# Altium integrated library Linear Technology Power Management LDO Linear Regulators.IntLib: 2339 symbols (part 25 of 131)
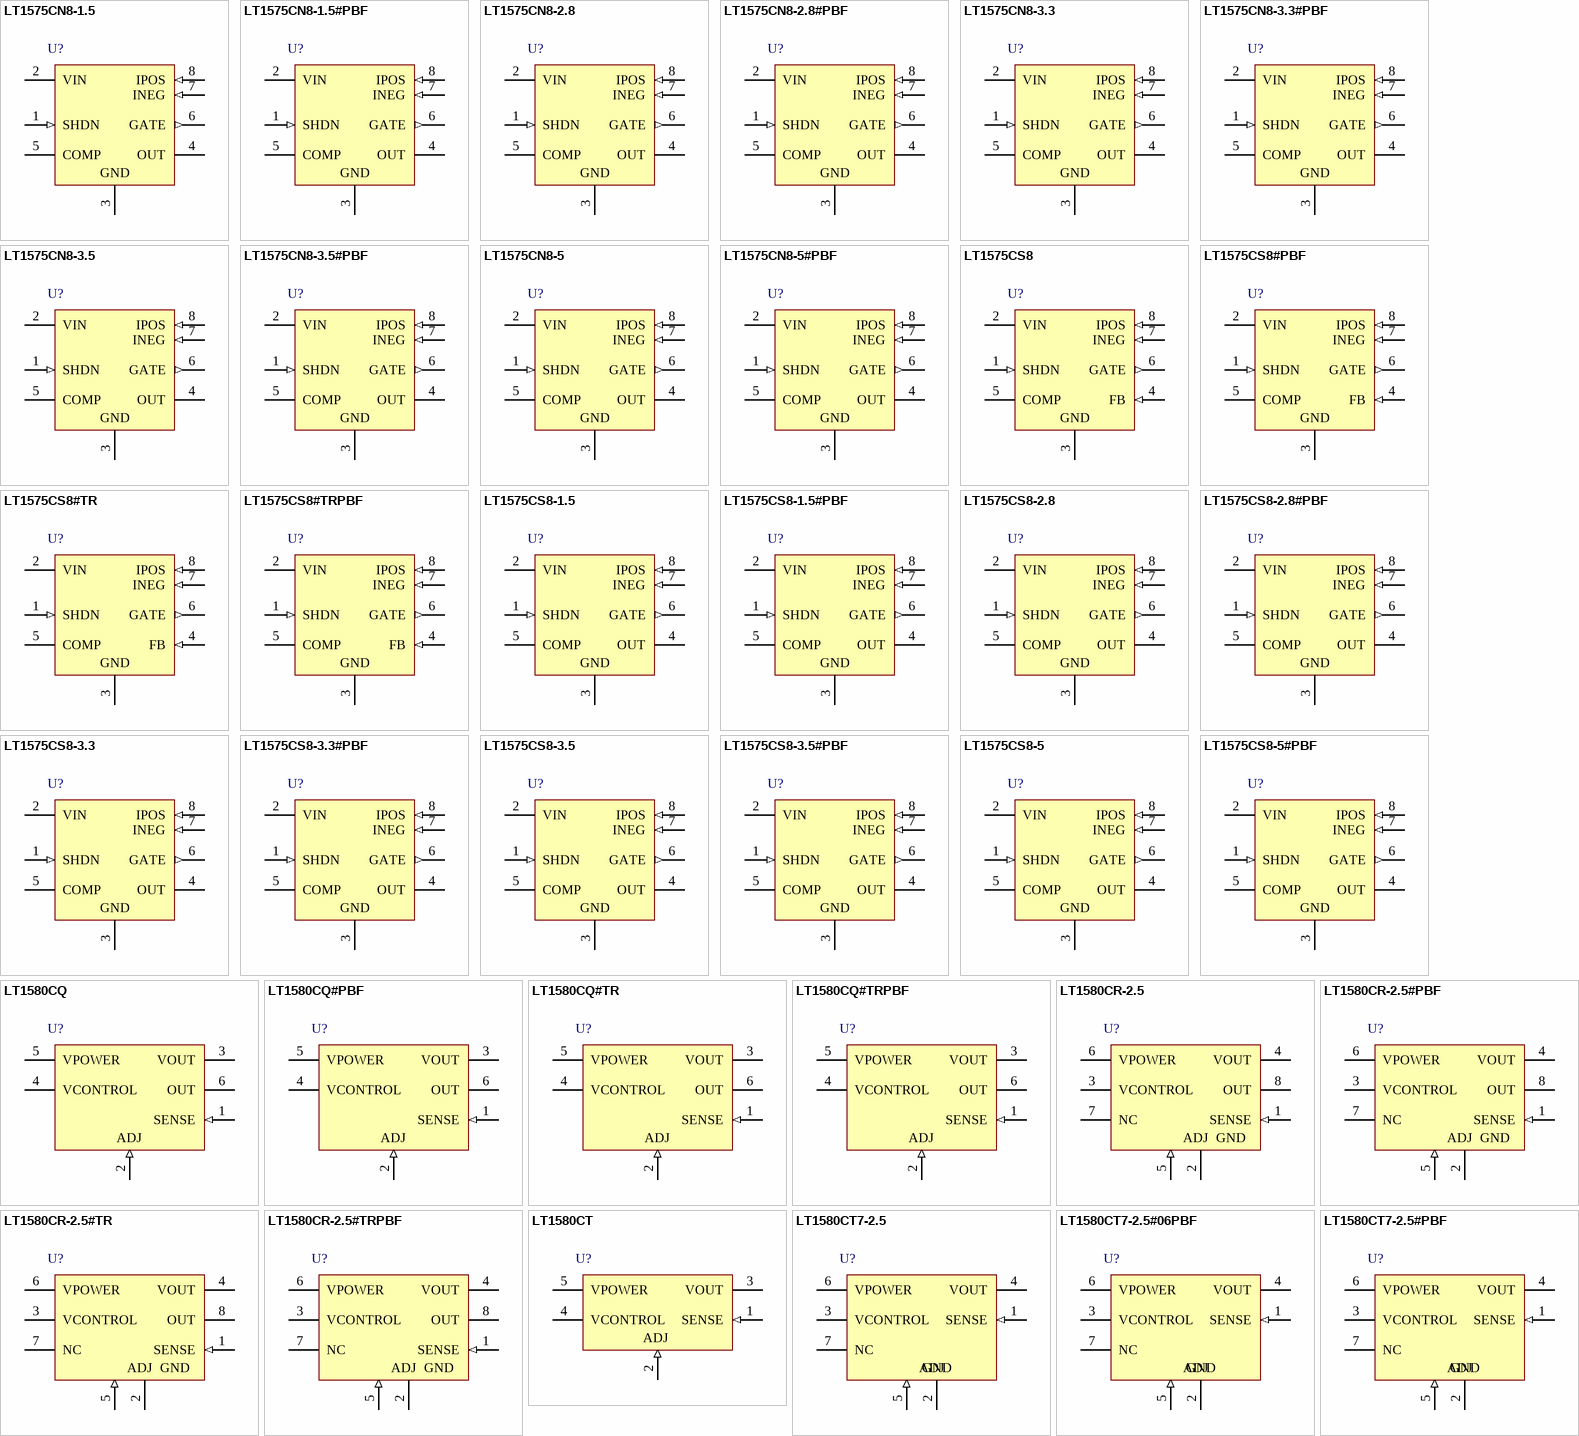
[diagram p93: symbols LT1575CN8-1.5 to LT1580CT7-2.5#PBF]

## LT1575CN8-2.8#PBF
designator U?
Ultrafast Transient Response, Low Dropout Regulator, 10 to 20 V Vin, 2.8 Vout, 8-pin DIP (N8-8), 0 to 70 degC, Pb-Free; Manufacturer: Linear Technology; PartNumber: LT1575CN8-2.8#PBF; Discrete Pass Element: yes; Iout(mA): 1; Isupply(mA): 12; Output Voltage: 2.8; Vin Max(V): 20; Vin Min(V): 10; PackageVersion: Rev. I, 07/2011; PackageReference: N8-8; PackageDescription: 8-Pin PDIP, Body 10.16 x 6.48 mm, Pitch 2.54 mm; Supplier 1: Digi-Key; Supplier Part Number 1: LT1575CN8-2.8#PBF-ND; Number of Outputs: 1; RoHS: TRUE; Mounting Technology: Through Hole; ComponentLink1Description: Manufacturer URL; ComponentLink1URL: http://www.linear.com/; ComponentLink2Description: Datasheet; ComponentLink2URL: http://cds.linear.com/docs/en/datasheet/15757f.pdf; ComponentLink3Description: Package Specification; ComponentLink3URL: http://www.linear.com/docs/en/packaging/05081510_I_N8.pdf
footprint LT-N8-8 (DIP, 8-Leads, Body 10.16x6.48mm, Pitch 2.54mm)
pins: 1 SHDN (in) "This is a multifunction shutdown pin that provides GATE drive latchoff capability. A 15uA current source, that turns on when current limit is activated, charges a capacitor placed in series with SHDN to GND and performs a (See Datasheet)", 2 VIN (power) "This is the input supply for the IC that powers the majority of internal circuitry and provides sufficient gate drive compliance for the external N-channel MOSFET. The typical supply voltage is 12V with 12.5mA of quiescent (See Datasheet)", 3 GND (power) "Analog Ground. This pin is also the negative sense terminal for the internal 1.21V reference. Connect external feedback divider networks that terminate to GND and frequency compensation components that terminate to GND (See Datasheet)", 4 OUT (power) "This is the inverting input of the error amplifier for the fixed voltage LT1575. The fixed voltage parts contain a precision resistor divider network to set output voltage. The typical resistor divider current is 1mA into (See Datasheet)", 5 COMP "This is the high impedance gain node of the error amplifier and is used for external frequency compensation. The transconductance of the error amplifier is 15 millimhos and open-loop voltage gain is typically 84dB. Frequency (See Datasheet)", 6 GATE (out) "This is the output of the error amplifier that drives N-channel MOSFETs with up to 5000pF of “effective?gate capacitance. The typical open-loop output impedance is 2ohm. When using low input capacitance MOSF(See Datasheet)", 7 INEG (in) "This is the negative sense terminal of the current limit amplifier. A small sense resistor is connected in series with the drain of the external MOSFET and is connected between the IPOS and INEG pins. A 50mV threshold (See Datasheet)", 8 IPOS (in) "This is the positive sense terminal of the current limit amplifier. Tie this pin directly to the main input voltage from which the output voltage is regulated. The typical input voltage is a 5V logic supply. This pin is also (See Datasheet)"

## LT1575CN8-3.3
designator U?
Ultrafast Transient Response, Low Dropout Regulator, 10 to 20 V Vin, 3.3 Vout, 8-pin DIP (N8-8), 0 to 70 degC; Manufacturer: Linear Technology; PartNumber: LT1575CN8-3.3; Discrete Pass Element: yes; Iout(mA): 1; Isupply(mA): 12; Output Voltage: 3.3; Vin Max(V): 20; Vin Min(V): 10; PackageVersion: Rev. I, 07/2011; PackageReference: N8-8; PackageDescription: 8-Pin PDIP, Body 10.16 x 6.48 mm, Pitch 2.54 mm; Supplier 1: Digi-Key; Supplier Part Number 1: LT1575CN8-3.3-ND; Number of Outputs: 1; RoHS: FALSE; Mounting Technology: Through Hole; ComponentLink1Description: Manufacturer URL; ComponentLink1URL: http://www.linear.com/; ComponentLink2Description: Datasheet; ComponentLink2URL: http://cds.linear.com/docs/en/datasheet/15757f.pdf; ComponentLink3Description: Package Specification; ComponentLink3URL: http://www.linear.com/docs/en/packaging/05081510_I_N8.pdf
footprint LT-N8-8 (DIP, 8-Leads, Body 10.16x6.48mm, Pitch 2.54mm)
pins: 1 SHDN (in) "This is a multifunction shutdown pin that provides GATE drive latchoff capability. A 15uA current source, that turns on when current limit is activated, charges a capacitor placed in series with SHDN to GND and performs a (See Datasheet)", 2 VIN (power) "This is the input supply for the IC that powers the majority of internal circuitry and provides sufficient gate drive compliance for the external N-channel MOSFET. The typical supply voltage is 12V with 12.5mA of quiescent (See Datasheet)", 3 GND (power) "Analog Ground. This pin is also the negative sense terminal for the internal 1.21V reference. Connect external feedback divider networks that terminate to GND and frequency compensation components that terminate to GND (See Datasheet)", 4 OUT (power) "This is the inverting input of the error amplifier for the fixed voltage LT1575. The fixed voltage parts contain a precision resistor divider network to set output voltage. The typical resistor divider current is 1mA into (See Datasheet)", 5 COMP "This is the high impedance gain node of the error amplifier and is used for external frequency compensation. The transconductance of the error amplifier is 15 millimhos and open-loop voltage gain is typically 84dB. Frequency (See Datasheet)", 6 GATE (out) "This is the output of the error amplifier that drives N-channel MOSFETs with up to 5000pF of “effective?gate capacitance. The typical open-loop output impedance is 2ohm. When using low input capacitance MOSF(See Datasheet)", 7 INEG (in) "This is the negative sense terminal of the current limit amplifier. A small sense resistor is connected in series with the drain of the external MOSFET and is connected between the IPOS and INEG pins. A 50mV threshold (See Datasheet)", 8 IPOS (in) "This is the positive sense terminal of the current limit amplifier. Tie this pin directly to the main input voltage from which the output voltage is regulated. The typical input voltage is a 5V logic supply. This pin is also (See Datasheet)"

## LT1575CN8-3.3#PBF
designator U?
Ultrafast Transient Response, Low Dropout Regulator, 10 to 20 V Vin, 3.3 Vout, 8-pin DIP (N8-8), 0 to 70 degC, Pb-Free; Manufacturer: Linear Technology; PartNumber: LT1575CN8-3.3#PBF; Discrete Pass Element: yes; Iout(mA): 1; Isupply(mA): 12; Output Voltage: 3.3; Vin Max(V): 20; Vin Min(V): 10; PackageVersion: Rev. I, 07/2011; PackageReference: N8-8; PackageDescription: 8-Pin PDIP, Body 10.16 x 6.48 mm, Pitch 2.54 mm; Supplier 1: Digi-Key; Supplier Part Number 1: LT1575CN8-3.3#PBF-ND; Number of Outputs: 1; RoHS: TRUE; Mounting Technology: Through Hole; ComponentLink1Description: Manufacturer URL; ComponentLink1URL: http://www.linear.com/; ComponentLink2Description: Datasheet; ComponentLink2URL: http://cds.linear.com/docs/en/datasheet/15757f.pdf; ComponentLink3Description: Package Specification; ComponentLink3URL: http://www.linear.com/docs/en/packaging/05081510_I_N8.pdf
footprint LT-N8-8 (DIP, 8-Leads, Body 10.16x6.48mm, Pitch 2.54mm)
pins: 1 SHDN (in) "This is a multifunction shutdown pin that provides GATE drive latchoff capability. A 15uA current source, that turns on when current limit is activated, charges a capacitor placed in series with SHDN to GND and performs a (See Datasheet)", 2 VIN (power) "This is the input supply for the IC that powers the majority of internal circuitry and provides sufficient gate drive compliance for the external N-channel MOSFET. The typical supply voltage is 12V with 12.5mA of quiescent (See Datasheet)", 3 GND (power) "Analog Ground. This pin is also the negative sense terminal for the internal 1.21V reference. Connect external feedback divider networks that terminate to GND and frequency compensation components that terminate to GND (See Datasheet)", 4 OUT (power) "This is the inverting input of the error amplifier for the fixed voltage LT1575. The fixed voltage parts contain a precision resistor divider network to set output voltage. The typical resistor divider current is 1mA into (See Datasheet)", 5 COMP "This is the high impedance gain node of the error amplifier and is used for external frequency compensation. The transconductance of the error amplifier is 15 millimhos and open-loop voltage gain is typically 84dB. Frequency (See Datasheet)", 6 GATE (out) "This is the output of the error amplifier that drives N-channel MOSFETs with up to 5000pF of “effective?gate capacitance. The typical open-loop output impedance is 2ohm. When using low input capacitance MOSF(See Datasheet)", 7 INEG (in) "This is the negative sense terminal of the current limit amplifier. A small sense resistor is connected in series with the drain of the external MOSFET and is connected between the IPOS and INEG pins. A 50mV threshold (See Datasheet)", 8 IPOS (in) "This is the positive sense terminal of the current limit amplifier. Tie this pin directly to the main input voltage from which the output voltage is regulated. The typical input voltage is a 5V logic supply. This pin is also (See Datasheet)"

## LT1575CN8-3.5
designator U?
Ultrafast Transient Response, Low Dropout Regulator, 10 to 20 V Vin, 3.5 Vout, 8-pin DIP (N8-8), 0 to 70 degC; Manufacturer: Linear Technology; PartNumber: LT1575CN8-3.5; Discrete Pass Element: yes; Iout(mA): 1; Isupply(mA): 12; Output Voltage: 3.5; Vin Max(V): 20; Vin Min(V): 10; PackageVersion: Rev. I, 07/2011; PackageReference: N8-8; PackageDescription: 8-Pin PDIP, Body 10.16 x 6.48 mm, Pitch 2.54 mm; Supplier 1: Digi-Key; Supplier Part Number 1: LT1575CN8-3.5-ND; Number of Outputs: 1; RoHS: FALSE; Mounting Technology: Through Hole; ComponentLink1Description: Manufacturer URL; ComponentLink1URL: http://www.linear.com/; ComponentLink2Description: Datasheet; ComponentLink2URL: http://cds.linear.com/docs/en/datasheet/15757f.pdf; ComponentLink3Description: Package Specification; ComponentLink3URL: http://www.linear.com/docs/en/packaging/05081510_I_N8.pdf
footprint LT-N8-8 (DIP, 8-Leads, Body 10.16x6.48mm, Pitch 2.54mm)
pins: 1 SHDN (in) "This is a multifunction shutdown pin that provides GATE drive latchoff capability. A 15uA current source, that turns on when current limit is activated, charges a capacitor placed in series with SHDN to GND and performs a (See Datasheet)", 2 VIN (power) "This is the input supply for the IC that powers the majority of internal circuitry and provides sufficient gate drive compliance for the external N-channel MOSFET. The typical supply voltage is 12V with 12.5mA of quiescent (See Datasheet)", 3 GND (power) "Analog Ground. This pin is also the negative sense terminal for the internal 1.21V reference. Connect external feedback divider networks that terminate to GND and frequency compensation components that terminate to GND (See Datasheet)", 4 OUT (power) "This is the inverting input of the error amplifier for the fixed voltage LT1575. The fixed voltage parts contain a precision resistor divider network to set output voltage. The typical resistor divider current is 1mA into (See Datasheet)", 5 COMP "This is the high impedance gain node of the error amplifier and is used for external frequency compensation. The transconductance of the error amplifier is 15 millimhos and open-loop voltage gain is typically 84dB. Frequency (See Datasheet)", 6 GATE (out) "This is the output of the error amplifier that drives N-channel MOSFETs with up to 5000pF of “effective?gate capacitance. The typical open-loop output impedance is 2ohm. When using low input capacitance MOSF(See Datasheet)", 7 INEG (in) "This is the negative sense terminal of the current limit amplifier. A small sense resistor is connected in series with the drain of the external MOSFET and is connected between the IPOS and INEG pins. A 50mV threshold (See Datasheet)", 8 IPOS (in) "This is the positive sense terminal of the current limit amplifier. Tie this pin directly to the main input voltage from which the output voltage is regulated. The typical input voltage is a 5V logic supply. This pin is also (See Datasheet)"

## LT1575CN8-3.5#PBF
designator U?
Ultrafast Transient Response, Low Dropout Regulator, 10 to 20 V Vin, 3.5 Vout, 8-pin DIP (N8-8), 0 to 70 degC, Pb-Free; Manufacturer: Linear Technology; PartNumber: LT1575CN8-3.5#PBF; Discrete Pass Element: yes; Iout(mA): 1; Isupply(mA): 12; Output Voltage: 3.5; Vin Max(V): 20; Vin Min(V): 10; PackageVersion: Rev. I, 07/2011; PackageReference: N8-8; PackageDescription: 8-Pin PDIP, Body 10.16 x 6.48 mm, Pitch 2.54 mm; Supplier 1: Digi-Key; Supplier Part Number 1: LT1575CN8-3.5#PBF-ND; Number of Outputs: 1; RoHS: TRUE; Mounting Technology: Through Hole; ComponentLink1Description: Manufacturer URL; ComponentLink1URL: http://www.linear.com/; ComponentLink2Description: Datasheet; ComponentLink2URL: http://cds.linear.com/docs/en/datasheet/15757f.pdf; ComponentLink3Description: Package Specification; ComponentLink3URL: http://www.linear.com/docs/en/packaging/05081510_I_N8.pdf
footprint LT-N8-8 (DIP, 8-Leads, Body 10.16x6.48mm, Pitch 2.54mm)
pins: 1 SHDN (in) "This is a multifunction shutdown pin that provides GATE drive latchoff capability. A 15uA current source, that turns on when current limit is activated, charges a capacitor placed in series with SHDN to GND and performs a (See Datasheet)", 2 VIN (power) "This is the input supply for the IC that powers the majority of internal circuitry and provides sufficient gate drive compliance for the external N-channel MOSFET. The typical supply voltage is 12V with 12.5mA of quiescent (See Datasheet)", 3 GND (power) "Analog Ground. This pin is also the negative sense terminal for the internal 1.21V reference. Connect external feedback divider networks that terminate to GND and frequency compensation components that terminate to GND (See Datasheet)", 4 OUT (power) "This is the inverting input of the error amplifier for the fixed voltage LT1575. The fixed voltage parts contain a precision resistor divider network to set output voltage. The typical resistor divider current is 1mA into (See Datasheet)", 5 COMP "This is the high impedance gain node of the error amplifier and is used for external frequency compensation. The transconductance of the error amplifier is 15 millimhos and open-loop voltage gain is typically 84dB. Frequency (See Datasheet)", 6 GATE (out) "This is the output of the error amplifier that drives N-channel MOSFETs with up to 5000pF of “effective?gate capacitance. The typical open-loop output impedance is 2ohm. When using low input capacitance MOSF(See Datasheet)", 7 INEG (in) "This is the negative sense terminal of the current limit amplifier. A small sense resistor is connected in series with the drain of the external MOSFET and is connected between the IPOS and INEG pins. A 50mV threshold (See Datasheet)", 8 IPOS (in) "This is the positive sense terminal of the current limit amplifier. Tie this pin directly to the main input voltage from which the output voltage is regulated. The typical input voltage is a 5V logic supply. This pin is also (See Datasheet)"

## LT1575CN8-5
designator U?
Ultrafast Transient Response, Low Dropout Regulator, 10 to 20 V Vin, 5 Vout, 8-pin DIP (N8-8), 0 to 70 degC; Manufacturer: Linear Technology; PartNumber: LT1575CN8-5; Discrete Pass Element: yes; Iout(mA): 1; Isupply(mA): 12; Output Voltage: 5; Vin Max(V): 20; Vin Min(V): 10; PackageVersion: Rev. I, 07/2011; PackageReference: N8-8; PackageDescription: 8-Pin PDIP, Body 10.16 x 6.48 mm, Pitch 2.54 mm; Number of Outputs: 1; RoHS: FALSE; Mounting Technology: Through Hole; ComponentLink1Description: Manufacturer URL; ComponentLink1URL: http://www.linear.com/; ComponentLink2Description: Datasheet; ComponentLink2URL: http://cds.linear.com/docs/en/datasheet/15757f.pdf; ComponentLink3Description: Package Specification; ComponentLink3URL: http://www.linear.com/docs/en/packaging/05081510_I_N8.pdf
footprint LT-N8-8 (DIP, 8-Leads, Body 10.16x6.48mm, Pitch 2.54mm)
pins: 1 SHDN (in) "This is a multifunction shutdown pin that provides GATE drive latchoff capability. A 15uA current source, that turns on when current limit is activated, charges a capacitor placed in series with SHDN to GND and performs a (See Datasheet)", 2 VIN (power) "This is the input supply for the IC that powers the majority of internal circuitry and provides sufficient gate drive compliance for the external N-channel MOSFET. The typical supply voltage is 12V with 12.5mA of quiescent (See Datasheet)", 3 GND (power) "Analog Ground. This pin is also the negative sense terminal for the internal 1.21V reference. Connect external feedback divider networks that terminate to GND and frequency compensation components that terminate to GND (See Datasheet)", 4 OUT (power) "This is the inverting input of the error amplifier for the fixed voltage LT1575. The fixed voltage parts contain a precision resistor divider network to set output voltage. The typical resistor divider current is 1mA into (See Datasheet)", 5 COMP "This is the high impedance gain node of the error amplifier and is used for external frequency compensation. The transconductance of the error amplifier is 15 millimhos and open-loop voltage gain is typically 84dB. Frequency (See Datasheet)", 6 GATE (out) "This is the output of the error amplifier that drives N-channel MOSFETs with up to 5000pF of “effective?gate capacitance. The typical open-loop output impedance is 2ohm. When using low input capacitance MOSF(See Datasheet)", 7 INEG (in) "This is the negative sense terminal of the current limit amplifier. A small sense resistor is connected in series with the drain of the external MOSFET and is connected between the IPOS and INEG pins. A 50mV threshold (See Datasheet)", 8 IPOS (in) "This is the positive sense terminal of the current limit amplifier. Tie this pin directly to the main input voltage from which the output voltage is regulated. The typical input voltage is a 5V logic supply. This pin is also (See Datasheet)"

## LT1575CN8-5#PBF
designator U?
Ultrafast Transient Response, Low Dropout Regulator, 10 to 20 V Vin, 5 Vout, 8-pin DIP (N8-8), 0 to 70 degC, Pb-Free; Manufacturer: Linear Technology; PartNumber: LT1575CN8-5#PBF; Discrete Pass Element: yes; Iout(mA): 1; Isupply(mA): 12; Output Voltage: 5; Vin Max(V): 20; Vin Min(V): 10; PackageVersion: Rev. I, 07/2011; PackageReference: N8-8; PackageDescription: 8-Pin PDIP, Body 10.16 x 6.48 mm, Pitch 2.54 mm; Supplier 1: Digi-Key; Supplier Part Number 1: LT1575CN8-5#PBF-ND; Number of Outputs: 1; RoHS: TRUE; Mounting Technology: Through Hole; ComponentLink1Description: Manufacturer URL; ComponentLink1URL: http://www.linear.com/; ComponentLink2Description: Datasheet; ComponentLink2URL: http://cds.linear.com/docs/en/datasheet/15757f.pdf; ComponentLink3Description: Package Specification; ComponentLink3URL: http://www.linear.com/docs/en/packaging/05081510_I_N8.pdf
footprint LT-N8-8 (DIP, 8-Leads, Body 10.16x6.48mm, Pitch 2.54mm)
pins: 1 SHDN (in) "This is a multifunction shutdown pin that provides GATE drive latchoff capability. A 15uA current source, that turns on when current limit is activated, charges a capacitor placed in series with SHDN to GND and performs a (See Datasheet)", 2 VIN (power) "This is the input supply for the IC that powers the majority of internal circuitry and provides sufficient gate drive compliance for the external N-channel MOSFET. The typical supply voltage is 12V with 12.5mA of quiescent (See Datasheet)", 3 GND (power) "Analog Ground. This pin is also the negative sense terminal for the internal 1.21V reference. Connect external feedback divider networks that terminate to GND and frequency compensation components that terminate to GND (See Datasheet)", 4 OUT (power) "This is the inverting input of the error amplifier for the fixed voltage LT1575. The fixed voltage parts contain a precision resistor divider network to set output voltage. The typical resistor divider current is 1mA into (See Datasheet)", 5 COMP "This is the high impedance gain node of the error amplifier and is used for external frequency compensation. The transconductance of the error amplifier is 15 millimhos and open-loop voltage gain is typically 84dB. Frequency (See Datasheet)", 6 GATE (out) "This is the output of the error amplifier that drives N-channel MOSFETs with up to 5000pF of “effective?gate capacitance. The typical open-loop output impedance is 2ohm. When using low input capacitance MOSF(See Datasheet)", 7 INEG (in) "This is the negative sense terminal of the current limit amplifier. A small sense resistor is connected in series with the drain of the external MOSFET and is connected between the IPOS and INEG pins. A 50mV threshold (See Datasheet)", 8 IPOS (in) "This is the positive sense terminal of the current limit amplifier. Tie this pin directly to the main input voltage from which the output voltage is regulated. The typical input voltage is a 5V logic supply. This pin is also (See Datasheet)"

## LT1575CS8
designator U?
Ultrafast Transient Response, Low Dropout Regulator, 10 to 20 V Vin, Adjustable Vout, 8-pin SOIC (S8-8), 0 to 70 degC; Manufacturer: Linear Technology; PartNumber: LT1575CS8; Discrete Pass Element: yes; Iout(mA): 1; Isupply(mA): 12; Output Voltage: Adj; Vin Max(V): 20; Vin Min(V): 10; Vout Min(V): 1.27; PackageVersion: Rev. G, 03/2012; PackageReference: S8-8; PackageDescription: 8-Pin Plastic Small Outline (Narrow .150 Inch), Body 4.9 x 3.9 mm, Pitch 1.27 mm; Supplier 1: Digi-Key; Supplier Part Number 1: LT1575CS8-ND; Supplier 2: Newark; Supplier Part Number 2: 57M4921; Number of Outputs: 1; RoHS: FALSE; Mounting Technology: Surface Mount; ComponentLink1Description: Manufacturer URL; ComponentLink1URL: http://www.linear.com/; ComponentLink2Description: Datasheet; ComponentLink2URL: http://cds.linear.com/docs/en/datasheet/15757f.pdf; ComponentLink3Description: Package Specification; ComponentLink3URL: http://cds.linear.com/docs/en/packaging/05081610_G_SO8.pdf
footprint LT-S8-8_N (SOIC, 8-Leads, Body 4.9x3.9mm, Pitch 1.27mm, IPC Medium Density)
footprint LT-S8-8_L (SOIC, 8-Leads, Body 4.9x3.9mm, Pitch 1.27mm, IPC High Density)
footprint LT-S8-8_M (SOIC, 8-Leads, Body 4.9x3.9mm, Pitch 1.27mm, IPC Low Density)
pins: 1 SHDN (in) "This is a multifunction shutdown pin that provides GATE drive latchoff capability. A 15uA current source, that turns on when current limit is activated, charges a capacitor placed in series with SHDN to GND and performs a (See Datasheet)", 2 VIN (power) "This is the input supply for the IC that powers the majority of internal circuitry and provides sufficient gate drive compliance for the external N-channel MOSFET. The typical supply voltage is 12V with 12.5mA of quiescent (See Datasheet)", 3 GND (power) "Analog Ground. This pin is also the negative sense terminal for the internal 1.21V reference. Connect external feedback divider networks that terminate to GND and frequency compensation components that terminate to GND (See Datasheet)", 4 FB (in) "This is the inverting input of the error amplifier for the adjustable voltage LT1575. The noninverting input is tied to the internal 1.21V reference. Input bias current for this pin is typically 0.6uA flowing out of the pin. (See Datasheet)", 5 COMP "This is the high impedance gain node of the error amplifier and is used for external frequency compensation. The transconductance of the error amplifier is 15 millimhos and open-loop voltage gain is typically 84dB. Frequency (See Datasheet)", 6 GATE (out) "This is the output of the error amplifier that drives N-channel MOSFETs with up to 5000pF of “effective?gate capacitance. The typical open-loop output impedance is 2ohm. When using low input capacitance MOSF(See Datasheet)", 7 INEG (in) "This is the negative sense terminal of the current limit amplifier. A small sense resistor is connected in series with the drain of the external MOSFET and is connected between the IPOS and INEG pins. A 50mV threshold (See Datasheet)", 8 IPOS (in) "This is the positive sense terminal of the current limit amplifier. Tie this pin directly to the main input voltage from which the output voltage is regulated. The typical input voltage is a 5V logic supply. This pin is also (See Datasheet)"

## LT1575CS8#PBF
designator U?
Ultrafast Transient Response, Low Dropout Regulator, 10 to 20 V Vin, Adjustable Vout, 8-pin SOIC (S8-8), 0 to 70 degC, Pb-Free; Manufacturer: Linear Technology; PartNumber: LT1575CS8#PBF; Discrete Pass Element: yes; Iout(mA): 1; Isupply(mA): 12; Output Voltage: Adj; Vin Max(V): 20; Vin Min(V): 10; Vout Min(V): 1.27; PackageVersion: Rev. G, 03/2012; PackageReference: S8-8; PackageDescription: 8-Pin Plastic Small Outline (Narrow .150 Inch), Body 4.9 x 3.9 mm, Pitch 1.27 mm; Supplier 1: Digi-Key; Supplier Part Number 1: LT1575CS8#PBF-ND; Supplier 2: Farnell; Supplier Part Number 2: 1273592; Supplier 3: Newark; Supplier Part Number 3: 57M4932; Number of Outputs: 1; RoHS: TRUE; Mounting Technology: Surface Mount; ComponentLink1Description: Manufacturer URL; ComponentLink1URL: http://www.linear.com/; ComponentLink2Description: Datasheet; ComponentLink2URL: http://cds.linear.com/docs/en/datasheet/15757f.pdf; ComponentLink3Description: Package Specification; ComponentLink3URL: http://cds.linear.com/docs/en/packaging/05081610_G_SO8.pdf
footprint LT-S8-8_N (SOIC, 8-Leads, Body 4.9x3.9mm, Pitch 1.27mm, IPC Medium Density)
footprint LT-S8-8_L (SOIC, 8-Leads, Body 4.9x3.9mm, Pitch 1.27mm, IPC High Density)
footprint LT-S8-8_M (SOIC, 8-Leads, Body 4.9x3.9mm, Pitch 1.27mm, IPC Low Density)
pins: 1 SHDN (in) "This is a multifunction shutdown pin that provides GATE drive latchoff capability. A 15uA current source, that turns on when current limit is activated, charges a capacitor placed in series with SHDN to GND and performs a (See Datasheet)", 2 VIN (power) "This is the input supply for the IC that powers the majority of internal circuitry and provides sufficient gate drive compliance for the external N-channel MOSFET. The typical supply voltage is 12V with 12.5mA of quiescent (See Datasheet)", 3 GND (power) "Analog Ground. This pin is also the negative sense terminal for the internal 1.21V reference. Connect external feedback divider networks that terminate to GND and frequency compensation components that terminate to GND (See Datasheet)", 4 FB (in) "This is the inverting input of the error amplifier for the adjustable voltage LT1575. The noninverting input is tied to the internal 1.21V reference. Input bias current for this pin is typically 0.6uA flowing out of the pin. (See Datasheet)", 5 COMP "This is the high impedance gain node of the error amplifier and is used for external frequency compensation. The transconductance of the error amplifier is 15 millimhos and open-loop voltage gain is typically 84dB. Frequency (See Datasheet)", 6 GATE (out) "This is the output of the error amplifier that drives N-channel MOSFETs with up to 5000pF of “effective?gate capacitance. The typical open-loop output impedance is 2ohm. When using low input capacitance MOSF(See Datasheet)", 7 INEG (in) "This is the negative sense terminal of the current limit amplifier. A small sense resistor is connected in series with the drain of the external MOSFET and is connected between the IPOS and INEG pins. A 50mV threshold (See Datasheet)", 8 IPOS (in) "This is the positive sense terminal of the current limit amplifier. Tie this pin directly to the main input voltage from which the output voltage is regulated. The typical input voltage is a 5V logic supply. This pin is also (See Datasheet)"

## LT1575CS8#TR
designator U?
Ultrafast Transient Response, Low Dropout Regulator, 10 to 20 V Vin, Adjustable Vout, 8-pin SOIC (S8-8), 0 to 70 degC, Tape and Reel; Manufacturer: Linear Technology; PartNumber: LT1575CS8#TR; Discrete Pass Element: yes; Iout(mA): 1; Isupply(mA): 12; Output Voltage: Adj; Vin Max(V): 20; Vin Min(V): 10; Vout Min(V): 1.27; PackageVersion: Rev. G, 03/2012; PackageReference: S8-8; PackageDescription: 8-Pin Plastic Small Outline (Narrow .150 Inch), Body 4.9 x 3.9 mm, Pitch 1.27 mm; Supplier 1: Digi-Key; Supplier Part Number 1: LT1575CS8#TR-ND; Number of Outputs: 1; Packing: Tape and Reel; RoHS: FALSE; Mounting Technology: Surface Mount; ComponentLink1Description: Manufacturer URL; ComponentLink1URL: http://www.linear.com/; ComponentLink2Description: Datasheet; ComponentLink2URL: http://cds.linear.com/docs/en/datasheet/15757f.pdf; ComponentLink3Description: Package Specification; ComponentLink3URL: http://cds.linear.com/docs/en/packaging/05081610_G_SO8.pdf
footprint LT-S8-8_N (SOIC, 8-Leads, Body 4.9x3.9mm, Pitch 1.27mm, IPC Medium Density)
footprint LT-S8-8_L (SOIC, 8-Leads, Body 4.9x3.9mm, Pitch 1.27mm, IPC High Density)
footprint LT-S8-8_M (SOIC, 8-Leads, Body 4.9x3.9mm, Pitch 1.27mm, IPC Low Density)
pins: 1 SHDN (in) "This is a multifunction shutdown pin that provides GATE drive latchoff capability. A 15uA current source, that turns on when current limit is activated, charges a capacitor placed in series with SHDN to GND and performs a (See Datasheet)", 2 VIN (power) "This is the input supply for the IC that powers the majority of internal circuitry and provides sufficient gate drive compliance for the external N-channel MOSFET. The typical supply voltage is 12V with 12.5mA of quiescent (See Datasheet)", 3 GND (power) "Analog Ground. This pin is also the negative sense terminal for the internal 1.21V reference. Connect external feedback divider networks that terminate to GND and frequency compensation components that terminate to GND (See Datasheet)", 4 FB (in) "This is the inverting input of the error amplifier for the adjustable voltage LT1575. The noninverting input is tied to the internal 1.21V reference. Input bias current for this pin is typically 0.6uA flowing out of the pin. (See Datasheet)", 5 COMP "This is the high impedance gain node of the error amplifier and is used for external frequency compensation. The transconductance of the error amplifier is 15 millimhos and open-loop voltage gain is typically 84dB. Frequency (See Datasheet)", 6 GATE (out) "This is the output of the error amplifier that drives N-channel MOSFETs with up to 5000pF of “effective?gate capacitance. The typical open-loop output impedance is 2ohm. When using low input capacitance MOSF(See Datasheet)", 7 INEG (in) "This is the negative sense terminal of the current limit amplifier. A small sense resistor is connected in series with the drain of the external MOSFET and is connected between the IPOS and INEG pins. A 50mV threshold (See Datasheet)", 8 IPOS (in) "This is the positive sense terminal of the current limit amplifier. Tie this pin directly to the main input voltage from which the output voltage is regulated. The typical input voltage is a 5V logic supply. This pin is also (See Datasheet)"

## LT1575CS8#TRPBF
designator U?
Ultrafast Transient Response, Low Dropout Regulator, 10 to 20 V Vin, Adjustable Vout, 8-pin SOIC (S8-8), 0 to 70 degC, Pb-Free, Tape and Reel; Manufacturer: Linear Technology; PartNumber: LT1575CS8#TRPBF; Discrete Pass Element: yes; Iout(mA): 1; Isupply(mA): 12; Output Voltage: Adj; Vin Max(V): 20; Vin Min(V): 10; Vout Min(V): 1.27; PackageVersion: Rev. G, 03/2012; PackageReference: S8-8; PackageDescription: 8-Pin Plastic Small Outline (Narrow .150 Inch), Body 4.9 x 3.9 mm, Pitch 1.27 mm; Supplier 1: Digi-Key; Supplier Part Number 1: LT1575CS8#TRPBF-ND; Supplier 2: Newark; Supplier Part Number 2: 57M4934; Number of Outputs: 1; Packing: Tape and Reel; RoHS: TRUE; Mounting Technology: Surface Mount; ComponentLink1Description: Manufacturer URL; ComponentLink1URL: http://www.linear.com/; ComponentLink2Description: Datasheet; ComponentLink2URL: http://cds.linear.com/docs/en/datasheet/15757f.pdf; ComponentLink3Description: Package Specification; ComponentLink3URL: http://cds.linear.com/docs/en/packaging/05081610_G_SO8.pdf
footprint LT-S8-8_N (SOIC, 8-Leads, Body 4.9x3.9mm, Pitch 1.27mm, IPC Medium Density)
footprint LT-S8-8_L (SOIC, 8-Leads, Body 4.9x3.9mm, Pitch 1.27mm, IPC High Density)
footprint LT-S8-8_M (SOIC, 8-Leads, Body 4.9x3.9mm, Pitch 1.27mm, IPC Low Density)
pins: 1 SHDN (in) "This is a multifunction shutdown pin that provides GATE drive latchoff capability. A 15uA current source, that turns on when current limit is activated, charges a capacitor placed in series with SHDN to GND and performs a (See Datasheet)", 2 VIN (power) "This is the input supply for the IC that powers the majority of internal circuitry and provides sufficient gate drive compliance for the external N-channel MOSFET. The typical supply voltage is 12V with 12.5mA of quiescent (See Datasheet)", 3 GND (power) "Analog Ground. This pin is also the negative sense terminal for the internal 1.21V reference. Connect external feedback divider networks that terminate to GND and frequency compensation components that terminate to GND (See Datasheet)", 4 FB (in) "This is the inverting input of the error amplifier for the adjustable voltage LT1575. The noninverting input is tied to the internal 1.21V reference. Input bias current for this pin is typically 0.6uA flowing out of the pin. (See Datasheet)", 5 COMP "This is the high impedance gain node of the error amplifier and is used for external frequency compensation. The transconductance of the error amplifier is 15 millimhos and open-loop voltage gain is typically 84dB. Frequency (See Datasheet)", 6 GATE (out) "This is the output of the error amplifier that drives N-channel MOSFETs with up to 5000pF of “effective?gate capacitance. The typical open-loop output impedance is 2ohm. When using low input capacitance MOSF(See Datasheet)", 7 INEG (in) "This is the negative sense terminal of the current limit amplifier. A small sense resistor is connected in series with the drain of the external MOSFET and is connected between the IPOS and INEG pins. A 50mV threshold (See Datasheet)", 8 IPOS (in) "This is the positive sense terminal of the current limit amplifier. Tie this pin directly to the main input voltage from which the output voltage is regulated. The typical input voltage is a 5V logic supply. This pin is also (See Datasheet)"

## LT1575CS8-1.5
designator U?
Ultrafast Transient Response, Low Dropout Regulator, 10 to 20 V Vin, 1.5 Vout, 8-pin SOIC (S8-8), 0 to 70 degC; Manufacturer: Linear Technology; PartNumber: LT1575CS8-1.5; Discrete Pass Element: yes; Iout(mA): 1; Isupply(mA): 12; Output Voltage: 1.5; Vin Max(V): 20; Vin Min(V): 10; PackageVersion: Rev. G, 03/2012; PackageReference: S8-8; PackageDescription: 8-Pin Plastic Small Outline (Narrow .150 Inch), Body 4.9 x 3.9 mm, Pitch 1.27 mm; Supplier 1: Digi-Key; Supplier Part Number 1: LT1575CS8-1.5-ND; Number of Outputs: 1; RoHS: FALSE; Mounting Technology: Surface Mount; ComponentLink1Description: Manufacturer URL; ComponentLink1URL: http://www.linear.com/; ComponentLink2Description: Datasheet; ComponentLink2URL: http://cds.linear.com/docs/en/datasheet/15757f.pdf; ComponentLink3Description: Package Specification; ComponentLink3URL: http://cds.linear.com/docs/en/packaging/05081610_G_SO8.pdf
footprint LT-S8-8_N (SOIC, 8-Leads, Body 4.9x3.9mm, Pitch 1.27mm, IPC Medium Density)
footprint LT-S8-8_L (SOIC, 8-Leads, Body 4.9x3.9mm, Pitch 1.27mm, IPC High Density)
footprint LT-S8-8_M (SOIC, 8-Leads, Body 4.9x3.9mm, Pitch 1.27mm, IPC Low Density)
pins: 1 SHDN (in) "This is a multifunction shutdown pin that provides GATE drive latchoff capability. A 15uA current source, that turns on when current limit is activated, charges a capacitor placed in series with SHDN to GND and performs a (See Datasheet)", 2 VIN (power) "This is the input supply for the IC that powers the majority of internal circuitry and provides sufficient gate drive compliance for the external N-channel MOSFET. The typical supply voltage is 12V with 12.5mA of quiescent (See Datasheet)", 3 GND (power) "Analog Ground. This pin is also the negative sense terminal for the internal 1.21V reference. Connect external feedback divider networks that terminate to GND and frequency compensation components that terminate to GND (See Datasheet)", 4 OUT (power) "This is the inverting input of the error amplifier for the fixed voltage LT1575. The fixed voltage parts contain a precision resistor divider network to set output voltage. The typical resistor divider current is 1mA into (See Datasheet)", 5 COMP "This is the high impedance gain node of the error amplifier and is used for external frequency compensation. The transconductance of the error amplifier is 15 millimhos and open-loop voltage gain is typically 84dB. Frequency (See Datasheet)", 6 GATE (out) "This is the output of the error amplifier that drives N-channel MOSFETs with up to 5000pF of “effective?gate capacitance. The typical open-loop output impedance is 2ohm. When using low input capacitance MOSF(See Datasheet)", 7 INEG (in) "This is the negative sense terminal of the current limit amplifier. A small sense resistor is connected in series with the drain of the external MOSFET and is connected between the IPOS and INEG pins. A 50mV threshold (See Datasheet)", 8 IPOS (in) "This is the positive sense terminal of the current limit amplifier. Tie this pin directly to the main input voltage from which the output voltage is regulated. The typical input voltage is a 5V logic supply. This pin is also (See Datasheet)"

## LT1575CS8-1.5#PBF
designator U?
Ultrafast Transient Response, Low Dropout Regulator, 10 to 20 V Vin, 1.5 Vout, 8-pin SOIC (S8-8), 0 to 70 degC, Pb-Free; Manufacturer: Linear Technology; PartNumber: LT1575CS8-1.5#PBF; Discrete Pass Element: yes; Iout(mA): 1; Isupply(mA): 12; Output Voltage: 1.5; Vin Max(V): 20; Vin Min(V): 10; PackageVersion: Rev. G, 03/2012; PackageReference: S8-8; PackageDescription: 8-Pin Plastic Small Outline (Narrow .150 Inch), Body 4.9 x 3.9 mm, Pitch 1.27 mm; Supplier 1: Digi-Key; Supplier Part Number 1: LT1575CS8-1.5#PBF-ND; Number of Outputs: 1; RoHS: TRUE; Mounting Technology: Surface Mount; ComponentLink1Description: Manufacturer URL; ComponentLink1URL: http://www.linear.com/; ComponentLink2Description: Datasheet; ComponentLink2URL: http://cds.linear.com/docs/en/datasheet/15757f.pdf; ComponentLink3Description: Package Specification; ComponentLink3URL: http://cds.linear.com/docs/en/packaging/05081610_G_SO8.pdf
footprint LT-S8-8_N (SOIC, 8-Leads, Body 4.9x3.9mm, Pitch 1.27mm, IPC Medium Density)
footprint LT-S8-8_L (SOIC, 8-Leads, Body 4.9x3.9mm, Pitch 1.27mm, IPC High Density)
footprint LT-S8-8_M (SOIC, 8-Leads, Body 4.9x3.9mm, Pitch 1.27mm, IPC Low Density)
pins: 1 SHDN (in) "This is a multifunction shutdown pin that provides GATE drive latchoff capability. A 15uA current source, that turns on when current limit is activated, charges a capacitor placed in series with SHDN to GND and performs a (See Datasheet)", 2 VIN (power) "This is the input supply for the IC that powers the majority of internal circuitry and provides sufficient gate drive compliance for the external N-channel MOSFET. The typical supply voltage is 12V with 12.5mA of quiescent (See Datasheet)", 3 GND (power) "Analog Ground. This pin is also the negative sense terminal for the internal 1.21V reference. Connect external feedback divider networks that terminate to GND and frequency compensation components that terminate to GND (See Datasheet)", 4 OUT (power) "This is the inverting input of the error amplifier for the fixed voltage LT1575. The fixed voltage parts contain a precision resistor divider network to set output voltage. The typical resistor divider current is 1mA into (See Datasheet)", 5 COMP "This is the high impedance gain node of the error amplifier and is used for external frequency compensation. The transconductance of the error amplifier is 15 millimhos and open-loop voltage gain is typically 84dB. Frequency (See Datasheet)", 6 GATE (out) "This is the output of the error amplifier that drives N-channel MOSFETs with up to 5000pF of “effective?gate capacitance. The typical open-loop output impedance is 2ohm. When using low input capacitance MOSF(See Datasheet)", 7 INEG (in) "This is the negative sense terminal of the current limit amplifier. A small sense resistor is connected in series with the drain of the external MOSFET and is connected between the IPOS and INEG pins. A 50mV threshold (See Datasheet)", 8 IPOS (in) "This is the positive sense terminal of the current limit amplifier. Tie this pin directly to the main input voltage from which the output voltage is regulated. The typical input voltage is a 5V logic supply. This pin is also (See Datasheet)"

## LT1575CS8-2.8
designator U?
Ultrafast Transient Response, Low Dropout Regulator, 10 to 20 V Vin, 2.8 Vout, 8-pin SOIC (S8-8), 0 to 70 degC; Manufacturer: Linear Technology; PartNumber: LT1575CS8-2.8; Discrete Pass Element: yes; Iout(mA): 1; Isupply(mA): 12; Output Voltage: 2.8; Vin Max(V): 20; Vin Min(V): 10; PackageVersion: Rev. G, 03/2012; PackageReference: S8-8; PackageDescription: 8-Pin Plastic Small Outline (Narrow .150 Inch), Body 4.9 x 3.9 mm, Pitch 1.27 mm; Supplier 1: Digi-Key; Supplier Part Number 1: LT1575CS8-2.8-ND; Number of Outputs: 1; RoHS: FALSE; Mounting Technology: Surface Mount; ComponentLink1Description: Manufacturer URL; ComponentLink1URL: http://www.linear.com/; ComponentLink2Description: Datasheet; ComponentLink2URL: http://cds.linear.com/docs/en/datasheet/15757f.pdf; ComponentLink3Description: Package Specification; ComponentLink3URL: http://cds.linear.com/docs/en/packaging/05081610_G_SO8.pdf
footprint LT-S8-8_N (SOIC, 8-Leads, Body 4.9x3.9mm, Pitch 1.27mm, IPC Medium Density)
footprint LT-S8-8_L (SOIC, 8-Leads, Body 4.9x3.9mm, Pitch 1.27mm, IPC High Density)
footprint LT-S8-8_M (SOIC, 8-Leads, Body 4.9x3.9mm, Pitch 1.27mm, IPC Low Density)
pins: 1 SHDN (in) "This is a multifunction shutdown pin that provides GATE drive latchoff capability. A 15uA current source, that turns on when current limit is activated, charges a capacitor placed in series with SHDN to GND and performs a (See Datasheet)", 2 VIN (power) "This is the input supply for the IC that powers the majority of internal circuitry and provides sufficient gate drive compliance for the external N-channel MOSFET. The typical supply voltage is 12V with 12.5mA of quiescent (See Datasheet)", 3 GND (power) "Analog Ground. This pin is also the negative sense terminal for the internal 1.21V reference. Connect external feedback divider networks that terminate to GND and frequency compensation components that terminate to GND (See Datasheet)", 4 OUT (power) "This is the inverting input of the error amplifier for the fixed voltage LT1575. The fixed voltage parts contain a precision resistor divider network to set output voltage. The typical resistor divider current is 1mA into (See Datasheet)", 5 COMP "This is the high impedance gain node of the error amplifier and is used for external frequency compensation. The transconductance of the error amplifier is 15 millimhos and open-loop voltage gain is typically 84dB. Frequency (See Datasheet)", 6 GATE (out) "This is the output of the error amplifier that drives N-channel MOSFETs with up to 5000pF of “effective?gate capacitance. The typical open-loop output impedance is 2ohm. When using low input capacitance MOSF(See Datasheet)", 7 INEG (in) "This is the negative sense terminal of the current limit amplifier. A small sense resistor is connected in series with the drain of the external MOSFET and is connected between the IPOS and INEG pins. A 50mV threshold (See Datasheet)", 8 IPOS (in) "This is the positive sense terminal of the current limit amplifier. Tie this pin directly to the main input voltage from which the output voltage is regulated. The typical input voltage is a 5V logic supply. This pin is also (See Datasheet)"

## LT1575CS8-2.8#PBF
designator U?
Ultrafast Transient Response, Low Dropout Regulator, 10 to 20 V Vin, 2.8 Vout, 8-pin SOIC (S8-8), 0 to 70 degC, Pb-Free; Manufacturer: Linear Technology; PartNumber: LT1575CS8-2.8#PBF; Discrete Pass Element: yes; Iout(mA): 1; Isupply(mA): 12; Output Voltage: 2.8; Vin Max(V): 20; Vin Min(V): 10; PackageVersion: Rev. G, 03/2012; PackageReference: S8-8; PackageDescription: 8-Pin Plastic Small Outline (Narrow .150 Inch), Body 4.9 x 3.9 mm, Pitch 1.27 mm; Supplier 1: Digi-Key; Supplier Part Number 1: LT1575CS8-2.8#PBF-ND; Number of Outputs: 1; RoHS: TRUE; Mounting Technology: Surface Mount; ComponentLink1Description: Manufacturer URL; ComponentLink1URL: http://www.linear.com/; ComponentLink2Description: Datasheet; ComponentLink2URL: http://cds.linear.com/docs/en/datasheet/15757f.pdf; ComponentLink3Description: Package Specification; ComponentLink3URL: http://cds.linear.com/docs/en/packaging/05081610_G_SO8.pdf
footprint LT-S8-8_N (SOIC, 8-Leads, Body 4.9x3.9mm, Pitch 1.27mm, IPC Medium Density)
footprint LT-S8-8_L (SOIC, 8-Leads, Body 4.9x3.9mm, Pitch 1.27mm, IPC High Density)
footprint LT-S8-8_M (SOIC, 8-Leads, Body 4.9x3.9mm, Pitch 1.27mm, IPC Low Density)
pins: 1 SHDN (in) "This is a multifunction shutdown pin that provides GATE drive latchoff capability. A 15uA current source, that turns on when current limit is activated, charges a capacitor placed in series with SHDN to GND and performs a (See Datasheet)", 2 VIN (power) "This is the input supply for the IC that powers the majority of internal circuitry and provides sufficient gate drive compliance for the external N-channel MOSFET. The typical supply voltage is 12V with 12.5mA of quiescent (See Datasheet)", 3 GND (power) "Analog Ground. This pin is also the negative sense terminal for the internal 1.21V reference. Connect external feedback divider networks that terminate to GND and frequency compensation components that terminate to GND (See Datasheet)", 4 OUT (power) "This is the inverting input of the error amplifier for the fixed voltage LT1575. The fixed voltage parts contain a precision resistor divider network to set output voltage. The typical resistor divider current is 1mA into (See Datasheet)", 5 COMP "This is the high impedance gain node of the error amplifier and is used for external frequency compensation. The transconductance of the error amplifier is 15 millimhos and open-loop voltage gain is typically 84dB. Frequency (See Datasheet)", 6 GATE (out) "This is the output of the error amplifier that drives N-channel MOSFETs with up to 5000pF of “effective?gate capacitance. The typical open-loop output impedance is 2ohm. When using low input capacitance MOSF(See Datasheet)", 7 INEG (in) "This is the negative sense terminal of the current limit amplifier. A small sense resistor is connected in series with the drain of the external MOSFET and is connected between the IPOS and INEG pins. A 50mV threshold (See Datasheet)", 8 IPOS (in) "This is the positive sense terminal of the current limit amplifier. Tie this pin directly to the main input voltage from which the output voltage is regulated. The typical input voltage is a 5V logic supply. This pin is also (See Datasheet)"